# EAGLE library part MICROCHIP_BY_ELEMENT14_BATCH_1_MCP4921-E/MS (library App_Board_V1.31)
Digital-to-Analog Converter
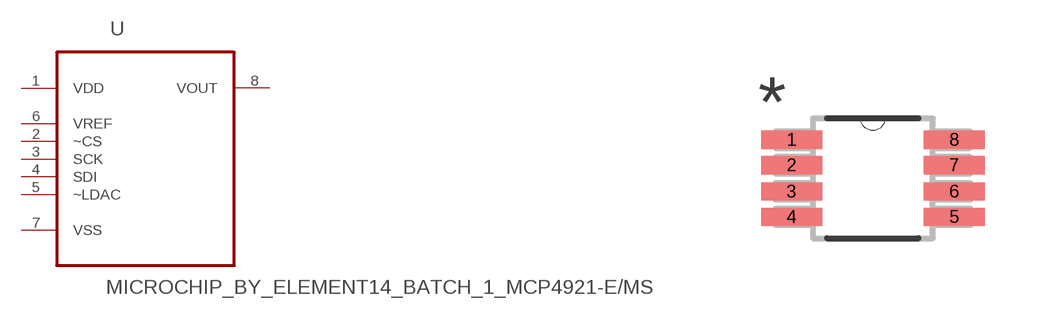
[diagram p0: symbol with the pads of MICROCHIP_BY_ELEMENT14_BATCH_1_SOP65P490X110-8N; footprint MICROCHIP_BY_ELEMENT14_BATCH_1_SOP65P490X110-8N]

Designator prefix -

## MICROCHIP_BY_ELEMENT14_BATCH_1_MCP4921-E/MS (MPN: MCP4921-E/MS; OC_FARNELL: 1834916; OC_NEWARK: 08J8742; PACKAGE: SOP-8; SUPPLIER: Microchip)  [MICROCHIP_BY_ELEMENT14_BATCH_1_SOP65P490X110-8N]
1  VDD  pwr
2  ~CS  in
3  SCK  in
4  SDI  in
5  ~LDAC  in
6  VREF  in
7  VSS  pwr
8  VOUT  out

## Footprint MICROCHIP_BY_ELEMENT14_BATCH_1_SOP65P490X110-8N (pad centres in mm)
smd 1.524 x 0.457: 1 -2.032,0.965; 2 -2.032,0.33; 3 -2.032,-0.33; 4 -2.032,-0.965; 5 2.032,-0.965; 6 2.032,-0.33; 7 2.032,0.33; 8 2.032,0.965